# EAGLE library part WAGO_STECK_KLEMME_8 (library Stecker_Pins)
WAGO Steckklemme, 8pol
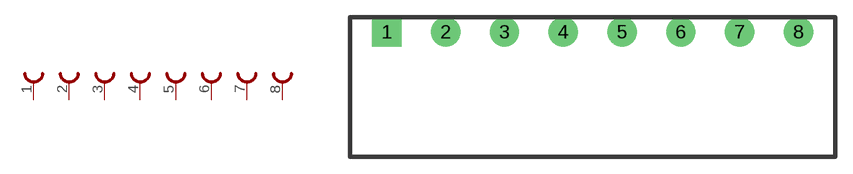
[diagram p11: symbol with the pads of WAGO_STECK_KLEMME_8; footprint WAGO_STECK_KLEMME_8]

Designator prefix J

## WAGO_STECK_KLEMME_8  [WAGO_STECK_KLEMME_8]
1  1  pas
2  2  pas
3  3  pas
4  4  pas
5  5  pas
6  6  pas
7  7  pas
8  8  pas

## Footprint WAGO_STECK_KLEMME_8 (pad centres in mm)
drill 0.8 pad 2.54 square: 1 -17.78,0
drill 0.8 pad 2.54: 2 -12.7,0; 3 -7.62,0; 4 -2.54,0; 5 2.54,0; 6 7.62,0; 7 12.7,0; 8 17.78,0